# EAGLE library part ADUM1201ARZ (library MIST_libraries)
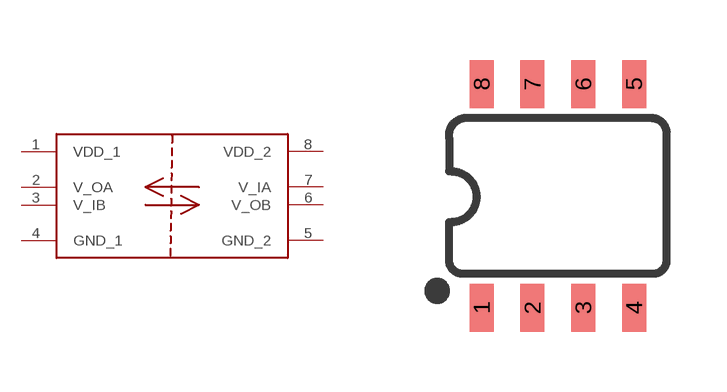
[diagram p1: symbol with the pads of SO08; footprint SO08]

Designator prefix I

## ADUM1201ARZ  [SO08]
1  VDD_1
2  V_OA
3  V_IB
4  GND_1
5  GND_2
6  V_OB
7  V_IA
8  VDD_2

## Footprint SO08 (pad centres in mm)
SOIC, 0.15 inch width
smd 0.6 x 1.2: 1 -1.905,-2.8; 2 -0.635,-2.8; 3 0.635,-2.8; 4 1.905,-2.8; 5 1.905,2.8; 6 0.635,2.8; 7 -0.635,2.8; 8 -1.905,2.8